# Altium footprint library diploma.PcbLib: 21 footprints (part 1 of 2)
Each footprint in its own frame and in the unit in brackets; x right, y up, seen from the top. Pads: shape width x height; smd on the part's side, far side on the other; paste and mask are expansions set on the pad; w line width, h text height; cw(c..) or ccw(c..) is an arc to the next point about the centre after c.
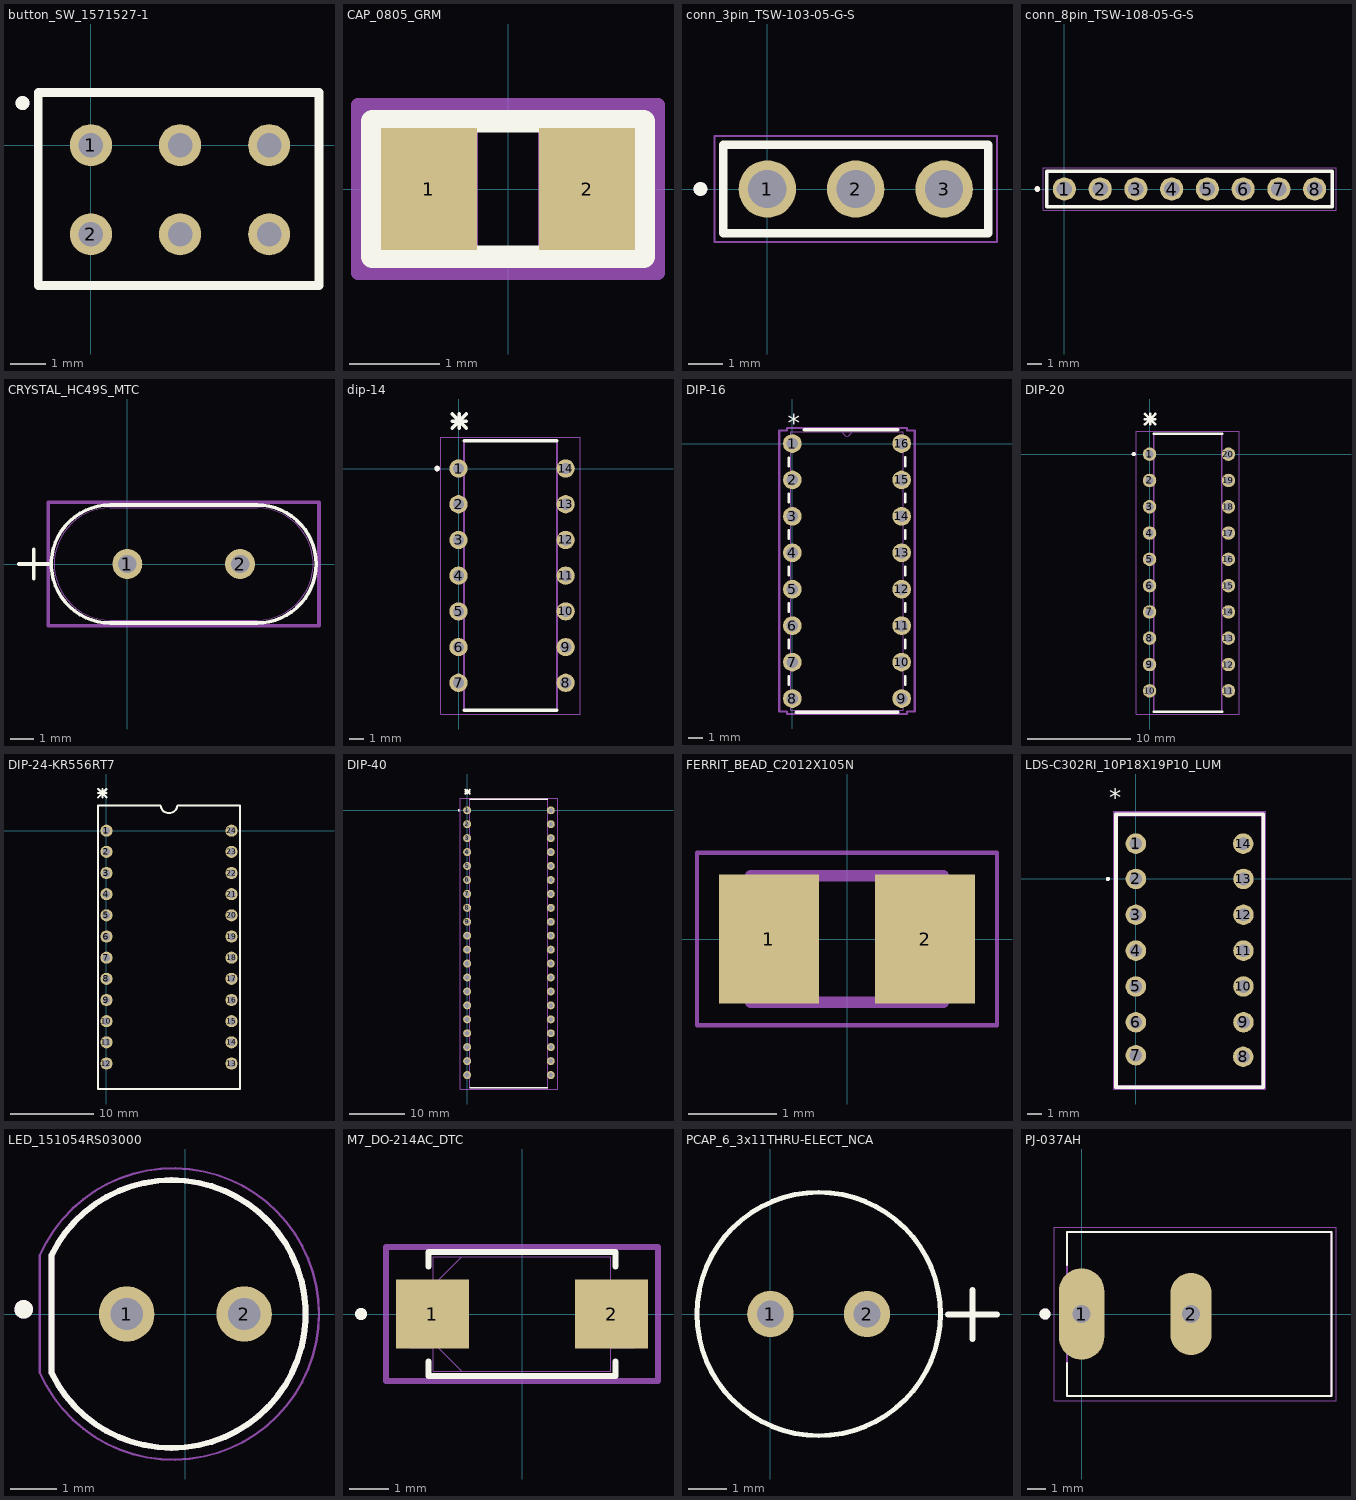
[diagram p0: the footprints below, top view; thin cyan lines are the x and y axes]

## button_SW_1571527-1 [mm]
pads (6):
  round 1.2 hole 0.7: 1(0,0) 2(0,-2.54) ""(2.54,-2.54) ""(2.54,0) ""(5.08,-2.54) ""(5.08,0)
Top Overlay:
  circle w0.2: c-1.95,1.2 r0.1
  lines w0.25: -1.5,-4 6.5,-4 6.5,1.5 -1.5,1.5 -1.5,-4
Mechanical 13:
  circle w0.2: c-1.95,1.2 r0.1
3D body "gb-25ap.stp": height 10.85, standoff -2.55, extent -0.95,-3.525 6.05,0.975

## CAP_0805_GRM [mil]
pads (2):
  rect 41.78x53 smd paste+0 mask+0: 1(-34.39,0) 2(34.39,0)
Top Overlay:
  lines w9.84: -59.06,-29.53 59.06,-29.53 59.06,29.53 -59.06,29.53 -59.06,-29.53
Mechanical 13:
  lines w1: -41.5,-26.5 -41.5,26.5 ; -41.5,-26.5 41.5,-26.5 ; -41.5,-26.5 -13.5,-26.5 -13.5,26.5 -41.5,26.5 ; -41.5,-26.5 -41.5,26.5 ; -41.5,26.5 41.5,26.5 ; 41.5,-26.5 41.5,26.5 ; 41.5,-26.5 41.5,26.5 ; 41.5,-26.5 13.5,-26.5 13.5,26.5 41.5,26.5
Mechanical 15:
  lines w6: -65.28,-36.5 65.28,-36.5 65.28,36.5 -65.28,36.5 -65.28,-36.5
3D body: height 10, standoff 0, extent 0,0 10,10
3D body "CAP_GRM_21B_MUR.step": height 52.99, standoff 0, extent -41.49,-26.49 41.51,26.5

## conn_3pin_TSW-103-05-G-S [mm]
pads (3):
  round 1.65 hole 1.1: 1(0,0) 2(2.54,0) 3(5.08,0)
Top Overlay:
  circle w0.2: c-1.92,0 r0.1
  lines w0.25: -1.27,-1.27 -1.27,1.27 6.35,1.27 6.35,-1.27 -1.27,-1.27
Mechanical 13:
  circle w0.2: c-1.92,0 r0.1
  lines w0.1: -1.27,-1.27 -1.27,1.27 6.35,1.27 6.35,-1.27 -1.27,-1.27
Mechanical 15:
  lines w0.05: -1.52,-1.52 -1.52,1.52 6.6,1.52 6.6,-1.52 -1.52,-1.52
3D body "TSW-103-05-G-S.stp": height 5.21, standoff -3.3, extent -1.397,-1.27 6.35,1.27

## conn_8pin_TSW-108-05-G-S [mm]
pads (8):
  round 1.65 hole 1.1: 1(0,0) 2(2.54,0) 3(5.08,0) 4(7.62,0) 5(10.16,0) 6(12.7,0) 7(15.24,0) 8(17.78,0)
Top Overlay:
  circle w0.2: c-1.92,0 r0.1
  lines w0.25: -1.27,-1.27 -1.27,1.27 19.05,1.27 19.05,-1.27 -1.27,-1.27
Mechanical 13:
  circle w0.2: c-1.92,0 r0.1
  lines w0.1: -1.27,-1.27 -1.27,1.27 19.05,1.27 19.05,-1.27 -1.27,-1.27
Mechanical 15:
  lines w0.05: -1.52,-1.52 -1.52,1.52 19.3,1.52 19.3,-1.52 -1.52,-1.52
3D body "conn_8pin_TSW-108-05-G-S.stp": height 2.87, standoff -5.64, extent -1.427,-1.27 19.02,1.27

## CRYSTAL_HC49S_MTC [mm]
pads (2):
  round 1.3 hole 0.8 mask+0: 1(0,0) 2(4.88,0)
Top Overlay:
  lines w0.152: -4.685,0 -3.415,0 ; -4.05,-0.635 -4.05,0.635 ; -0.735,-2.553 cw(c-0.735,0) -0.735,2.553 5.615,2.553 cw(c5.615,0) 8.168,0 cw(c5.615,0) 5.615,-2.553 -0.735,-2.553
Mechanical 13:
  lines w0: -0.735,-2.426 cw(c-0.735,0) -0.735,2.426 ; 5.615,-2.426 ccw(c5.615,0) 5.615,2.426
  lines w0.025: -4.685,0 -3.415,0 ; -4.05,-0.635 -4.05,0.635 ; -0.735,-2.426 5.615,-2.426 ; -0.735,2.426 5.615,2.426
Mechanical 15:
  lines w0.152: -3.415,-2.68 8.295,-2.68 8.295,2.68 -3.415,2.68 -3.415,-2.68
3D body: height 0.25, standoff 0, extent 0,0 0.254,0.254
3D body "CRYSTAL_HC49S_MTC.step": height 3.99, standoff -3.99, extent -3.43,-2.667 8.256,2.669

## dip-14 [mm]
pads (14):
  round 1.3 hole 0.8: 1(0,0) 2(0,-2.54) 3(0,-5.08) 4(0,-7.62) 5(0,-10.16) 6(0,-12.7) 7(0,-15.24) 8(7.62,-15.24) 9(7.62,-12.7) 10(7.62,-10.16) 11(7.62,-7.62) 12(7.62,-5.08) 13(7.62,-2.54) 14(7.62,0)
Top Overlay:
  circle w0.2: c-1.524,0 r0.1
  lines w0.25: -0.444,2.88 0.556,3.88 ; -0.444,3.38 0.556,3.38 ; -0.444,3.88 0.556,2.88 ; 0.056,2.88 0.056,3.88 ; 0.392,-17.209 6.996,-17.209 ; 0.392,1.968 6.996,1.968
Mechanical 13:
  circle w0.2: c-1.524,0 r0.1
  lines w0.127: 0.392,-17.209 6.996,-17.209 6.996,1.968 0.392,1.968 0.392,-17.209
Mechanical 15:
  lines w0.05: -1.274,-17.458 8.661,-17.458 8.661,2.218 -1.274,2.218 -1.274,-17.458
3D body "DIP-14.step": height 3.71, standoff -3.27, extent -0.206,-17.145 7.794,1.905

## DIP-16 [mm]
pads (16):
  round 1.3 hole 0.8 mask+0: 1(0,0) 2(0,-2.54) 3(0,-5.08) 4(0,-7.62) 5(0,-10.16) 6(0,-12.7) 7(0,-15.24) 8(0,-17.78) 9(7.62,-17.78) 10(7.62,-15.24) 11(7.62,-12.7) 12(7.62,-10.16) 13(7.62,-7.62) 14(7.62,-5.08) 15(7.62,-2.54) 16(7.62,0)
Top Overlay:
  lines w0.152: -0.254,-16.82 -0.254,-16.2 ; -0.254,-14.28 -0.254,-13.66 ; -0.254,-11.74 -0.254,-11.12 ; -0.254,-9.2 -0.254,-8.58 ; -0.254,-6.66 -0.254,-6.04 ; -0.254,-4.12 -0.254,-3.5 ; -0.254,-1.58 -0.254,-0.993 ; 7.874,-16.82 7.874,-16.2 ; 7.874,-14.28 7.874,-13.66 ; 7.874,-11.74 7.874,-11.12 ; 7.874,-9.2 7.874,-8.58 ; 7.874,-6.66 7.874,-6.04 ; 7.874,-4.12 7.874,-3.5 ; 7.874,-1.58 7.874,-0.96
  lines w0.25: 0.281,-18.732 7.339,-18.732 ; 0.82,0.953 7.339,0.953
  text "*" at -0.318,0.787 h1.27
Mechanical 13:
  lines w0: 3.505,0.826 ccw(c3.81,0.826) 4.115,0.826
  lines w0.025: -0.406,-18.186 -0.127,-18.186 -0.127,-17.374 -0.406,-17.374 -0.406,-18.186 ; -0.406,-15.646 -0.127,-15.646 -0.127,-14.834 -0.406,-14.834 -0.406,-15.646 ; -0.406,-13.106 -0.127,-13.106 -0.127,-12.294 -0.406,-12.294 -0.406,-13.106 ; -0.406,-10.566 -0.127,-10.566 -0.127,-9.754 -0.406,-9.754 -0.406,-10.566 ; -0.406,-8.026 -0.127,-8.026 -0.127,-7.214 -0.406,-7.214 -0.406,-8.026 ; -0.406,-5.486 -0.127,-5.486 -0.127,-4.674 -0.406,-4.674 -0.406,-5.486 ; -0.406,-2.946 -0.127,-2.946 -0.127,-2.134 -0.406,-2.134 -0.406,-2.946 ; -0.406,-0.406 -0.127,-0.406 -0.127,0.406 -0.406,0.406 -0.406,-0.406 ; -0.127,-18.605 -0.127,0.826 7.747,0.826 7.747,-18.605 -0.127,-18.605 ; 7.747,-18.186 8.026,-18.186 8.026,-17.374 7.747,-17.374 7.747,-18.186 ; 7.747,-15.646 8.026,-15.646 8.026,-14.834 7.747,-14.834 7.747,-15.646 ; 7.747,-13.106 8.026,-13.106 8.026,-12.294 7.747,-12.294 7.747,-13.106 ; 7.747,-10.566 8.026,-10.566 8.026,-9.754 7.747,-9.754 7.747,-10.566 ; 7.747,-8.026 8.026,-8.026 8.026,-7.214 7.747,-7.214 7.747,-8.026 ; 7.747,-5.486 8.026,-5.486 8.026,-4.674 7.747,-4.674 7.747,-5.486 ; 7.747,-2.946 8.026,-2.946 8.026,-2.134 7.747,-2.134 7.747,-2.946 ; 7.747,-0.406 8.026,-0.406 8.026,0.406 7.747,0.406 7.747,-0.406
  text "*" at -0.191,-0.635 h1.27
Mechanical 15:
  lines w0.152: -0.914,-18.694 -0.381,-18.694 -0.381,-18.86 8.001,-18.86 8.001,-18.694 8.534,-18.694 8.534,0.914 8.001,0.914 8.001,1.079 -0.381,1.079 -0.381,0.914 -0.914,0.914 -0.914,-18.694
3D body: height 0.25, standoff 0, extent 0,0 0.254,0.254
3D body "max232_dip16.step": height 4.7, standoff -2.54, extent -0.127,-18.606 7.864,0.826

## DIP-20 [mm]
pads (20):
  round 1.3 hole 0.8: 1(0,0) 2(0,-2.54) 3(0,-5.08) 4(0,-7.62) 5(0,-10.16) 6(0,-12.7) 7(0,-15.24) 8(0,-17.78) 9(0,-20.32) 10(0,-22.86) 11(7.62,-22.86) 12(7.62,-20.32) 13(7.62,-17.78) 14(7.62,-15.24) 15(7.62,-12.7) 16(7.62,-10.16) 17(7.62,-7.62) 18(7.62,-5.08) 19(7.62,-2.54) 20(7.62,0)
Top Overlay:
  circle w0.2: c-1.524,0 r0.1
  lines w0.25: -0.444,2.88 0.556,3.88 ; -0.444,3.38 0.556,3.38 ; -0.444,3.88 0.556,2.88 ; 0.056,2.88 0.056,3.88 ; 0.392,1.968 6.996,1.968 ; 0.396,-24.9 7,-24.9
Mechanical 13:
  circle w0.2: c-1.524,0 r0.1
  lines w0.127: 0.392,-24.9 6.996,-24.9 6.996,1.968 0.392,1.968 0.392,-24.9
Mechanical 15:
  lines w0.05: -1.274,-25.1 8.661,-25.1 8.661,2.218 -1.274,2.218 -1.274,-25.1
3D body "DIP-20.STEP": height 4.57, standoff -3.81, extent -0.01,-24.74 7.81,1.8

## DIP-24-KR556RT7 [mm]
pads (24):
  round 1.45 hole 0.9: 1(0,0) 2(0,-2.54) 3(0,-5.08) 4(0,-7.62) 5(0,-10.16) 6(0,-12.7) 7(0,-15.24) 8(0,-17.78) 9(0,-20.32) 10(0,-22.86) 11(0,-25.4) 12(0,-27.94) 13(15,-27.94) 14(15,-25.4) 15(15,-22.86) 16(15,-20.32) 17(15,-17.78) 18(15,-15.24) 19(15,-12.7) 20(15,-10.16) 21(15,-7.62) 22(15,-5.08) 23(15,-2.54) 24(15,0)
Top Overlay:
  lines w0.25: -1,4 0,5 ; -1,4.5 0,4.5 ; -1,5 0,4 ; -0.5,4 -0.5,5 ; 6.5,3 0,3 -1,3 -1,-31 16,-31 16,3 8.5,3 ; 6.519,2.904 ccw(c7.5,3.1) 8.484,2.921
3D body "DIP 24 IC WITH 0_280IN WINDOW.step": height 5.79, standoff -3.3, extent -0.118,-30.64 15.118,2

## DIP-40 [mm]
pads (40):
  round 1.45 hole 0.9: 1(0,0) 2(0,-2.54) 3(0,-5.08) 4(0,-7.62) 5(0,-10.16) 6(0,-12.7) 7(0,-15.24) 8(0,-17.78) 9(0,-20.32) 10(0,-22.86) 11(0,-25.4) 12(0,-27.94) 13(0,-30.48) 14(0,-33.02) 15(0,-35.56) 16(0,-38.1) 17(0,-40.64) 18(0,-43.18) 19(0,-45.72) 20(0,-48.26) 21(15.24,-48.26) 22(15.24,-45.72) 23(15.24,-43.18) 24(15.24,-40.64) 25(15.24,-38.1) 26(15.24,-35.56) 27(15.24,-33.02) 28(15.24,-30.48) 29(15.24,-27.94) 30(15.24,-25.4) 31(15.24,-22.86) 32(15.24,-20.32) 33(15.24,-17.78) 34(15.24,-15.24) 35(15.24,-12.7) 36(15.24,-10.16) 37(15.24,-7.62) 38(15.24,-5.08) 39(15.24,-2.54) 40(15.24,0)
Top Overlay:
  circle w0.2: c-1.524,0 r0.1
  lines w0.25: -0.444,2.88 0.556,3.88 ; -0.444,3.38 0.556,3.38 ; -0.444,3.88 0.556,2.88 ; 0.056,2.88 0.056,3.88 ; 0.476,-50.6 14.7,-50.6 ; 0.508,2.032 14.732,2.032
Mechanical 13:
  circle w0.2: c-1.524,0 r0.1
  lines w0.127: 0.508,-50.6 14.732,-50.6 14.732,2.032 0.508,2.032 0.508,-50.6
Mechanical 15:
  lines w0.05: -1.274,-50.8 -1.274,2.218 16.51,2.218 16.51,-50.8 -1.274,-50.8
3D body "DIP-40.step": height 5.79, standoff -3.3, extent -0.023,-50.568 15.263,2.032

## FERRIT_BEAD_C2012X105N [mm]
pads (2):
  rect 1.14x1.47 smd: 1(-0.89,0) 2(0.89,0)
Mechanical 13:
  lines w0.127: -1.1,-0.72 1.1,-0.72 1.1,0.72 -1.1,0.72 -1.1,-0.72
Mechanical 15:
  lines w0.05: -1.708,-0.983 1.708,-0.983 1.708,0.983 -1.708,0.983 -1.708,-0.983
3D body "ferrit_bead_BLM21BD421SZ1D.STEP": height 1.05, standoff 0, extent -1,-0.625 1,0.625

## LDS-C302RI_10P18X19P10_LUM [mm]
pads (14):
  round 1.45 hole 0.9 mask+0: 1(0,2.5) 2(0,0) 3(0,-2.54) 4(0,-5.08) 5(0,-7.62) 6(0,-10.16) 7(0,-12.5) 8(7.6,-12.6) 9(7.62,-10.16) 10(7.62,-7.62) 11(7.62,-5.08) 12(7.62,-2.54) 13(7.62,0) 14(7.6,2.5)
Top Overlay:
  circle w0.152: c-1.981,0 r0.076
  lines w0.25: -1.41,-14.757 -1.41,4.597 9.03,4.597 9.03,-14.757 -1.41,-14.757
  text "*" at -1.9,5.1 h1.27
Mechanical 13:
  lines w0.025: -1.283,-14.63 -1.283,4.47 8.903,4.47 8.903,-14.63 -1.283,-14.63
Mechanical 15:
  lines w0.152: -1.537,-14.884 9.157,-14.884 9.157,4.724 -1.537,4.724 -1.537,-14.884
3D body "Seven Segment Display.step": height 5.08, standoff -5, extent -0.74,-14.475 8.34,4.275
3D body: height 0.25, standoff 0, extent 0,0 0.254,0.254

## LED_151054RS03000 [mm]
pads (2):
  round 1.2 hole 0.7: 1(-1.27,0) 2(1.27,0)
Top Overlay:
  circle w0.2: c-3.5,0.1 r0.1
  lines w0.127: -2.9,-1.27 ccw(c-0.296,0) -2.9,1.27 -2.9,-1.27
Mechanical 13:
  circle w0.2: c-3.5,0.1 r0.1
  lines w0.127: -2.9,-1.27 ccw(c-0.296,0) -2.9,1.27 -2.9,-1.27
Mechanical 15:
  lines w0.05: -3.15,-1.27 -3.15,1.27 ; -3.144,-1.283 ccw(c-0.264,0) -3.144,1.283
3D body "led.STEP": height 15.1, standoff -20.4, extent -2.56,-2.925 2.85,2.875

## M7_DO-214AC_DTC [mm]
pads (2):
  rect 1.849x1.752 smd paste+0 mask+0: 1(-2.27,0) 2(2.27,0)
Top Overlay:
  circle w0.152: c-4.084,0 r0.076
  lines w0.152: -2.375,-1.209 -2.375,-1.575 2.375,-1.575 2.375,-1.209 ; -2.375,1.209 -2.375,1.575 2.375,1.575 2.375,1.209
Mechanical 13:
  circle w0: c-2.271,0 r0.076
  lines w0.025: -2.248,-0.724 -1.524,-1.448 ; -2.248,0.724 -1.524,1.448 ; -2.845,-0.851 -2.248,-0.851 -2.248,0.851 -2.845,0.851 -2.845,-0.851 ; -2.248,-1.448 -2.248,1.448 2.248,1.448 2.248,-1.448 -2.248,-1.448 ; 2.248,-0.851 2.845,-0.851 2.845,0.851 2.248,0.851 2.248,-0.851
Mechanical 15:
  lines w0.152: -3.449,-1.702 3.449,-1.702 3.449,1.702 -3.449,1.702 -3.449,-1.702
3D body "M7_DO-214AC.step": height 2.34, standoff 0, extent -2.642,-1.397 2.642,1.397
3D body: height 0.25, standoff 0, extent 0,0 0.254,0.254

## PCAP_6_3x11THRU-ELECT_NCA [mm]
pads (2):
  round 1.2 hole 0.7: 1(0,0) 2(2.5,0)
Top Overlay:
  circle w0.127: c1.25,0 r3.15
  lines w0.152: 4.593,-0.01 5.863,-0.01 ; 5.228,-0.645 5.228,0.625
Mechanical 13:
  lines w0.025: 4.593,-0.01 5.863,-0.01 ; 5.228,-0.645 5.228,0.625
3D body "UVR2E2R2MED.STEP": height 12.5, standoff -19, extent -1.875,-3.122 4.425,3.173
3D body: height 0.25, standoff 0, extent 0,0 0.254,0.254

## PJ-037AH [mm]
pads (2):
  oval 2.5x5 hole 1 square: 1(0,0)
  oval 2.25x4.5 hole 1 square: 2(6,0)
Top Overlay:
  circle w0.3: c-2,0 r0.15
  lines w0.127: -0.8,-2.7 -0.8,-4.5 13.7,-4.5 13.7,4.5 -0.8,4.5 -0.8,2.7
Mechanical 13:
  circle w0.3: c-2,0 r0.15
  lines w0.127: -0.8,-4.5 -0.8,4.5 13.7,4.5 13.7,-4.5 -0.8,-4.5
Mechanical 15:
  lines w0.05: -1.5,-4.75 -1.5,4.75 13.95,4.75 13.95,-4.75 -1.5,-4.75
3D body "pj-037ah.stp": height 11, standoff -3.5, extent -0.8,-4.5 13.7,4.5